# EAGLE library part ADE9000 (library IntegratedLib)
High Performance, Multiphase Energy, and Power Quality Monitoring IC (LFCSP-40)
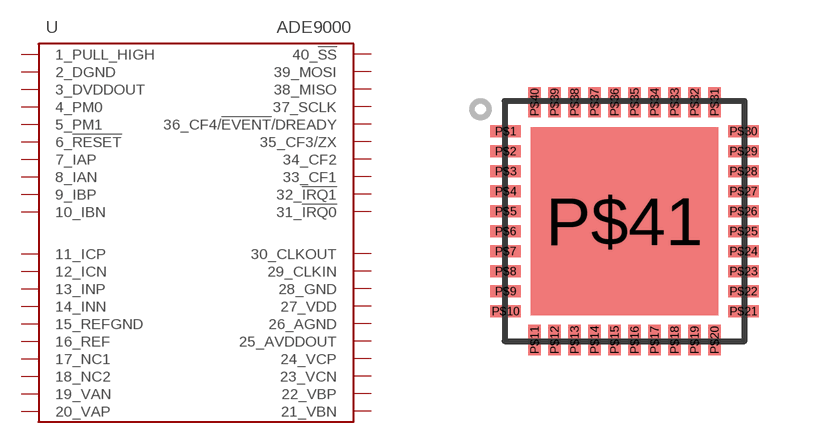
[diagram p15: symbol with the pads of LFCSP-40; footprint LFCSP-40]

Designator prefix U

## ADE9000 (FABRICANTE: ANALOG DEVICES; PARTNUMBER: ADE9000ACPZ; TIPO: CIRCUITO INTEGRADO)  [LFCSP-40]
P$1  1_PULL_HIGH
P$2  2_DGND
P$3  3_DVDDOUT
P$4  4_PM0
P$5  5_PM1
P$6  6_!RESET
P$7  7_IAP
P$8  8_IAN
P$9  9_IBP
P$10  10_IBN
P$11  11_ICP
P$12  12_ICN
P$13  13_INP
P$14  14_INN
P$15  15_REFGND
P$16  16_REF
P$17  17_NC1
P$18  18_NC2
P$19  19_VAN
P$20  20_VAP
P$21  21_VBN
P$22  22_VBP
P$23  23_VCN
P$24  24_VCP
P$25  25_AVDDOUT
P$26  26_AGND
P$27  27_VDD
P$28  28_GND
P$29  29_CLKIN
P$30  30_CLKOUT
P$31  31_!IRQ0
P$32  32_!IRQ1
P$33  33_CF1
P$34  34_CF2
P$35  35_CF3/ZX
P$36  36_CF4/!EVENT!/DREADY
P$37  37_SCLK
P$38  38_MISO
P$39  39_MOSI
P$40  40_!SS
P$41  28_GND

## Footprint LFCSP-40 (pad centres in mm)
smd 0.762 x 0.305: P$1 -2.972,2.25; P$2 -2.972,1.75; P$3 -2.972,1.25; P$4 -2.972,0.75; P$5 -2.972,0.25; P$6 -2.972,-0.25; P$7 -2.972,-0.75; P$8 -2.972,-1.25; P$9 -2.972,-1.75; P$10 -2.972,-2.25; P$21 2.972,-2.25; P$22 2.972,-1.75; P$23 2.972,-1.25; P$24 2.972,-0.75; P$25 2.972,-0.25; P$26 2.972,0.25; P$27 2.972,0.75; P$28 2.972,1.25; P$29 2.972,1.75; P$30 2.972,2.25
smd 0.305 x 0.762: P$11 -2.25,-2.972; P$12 -1.75,-2.972; P$13 -1.25,-2.972; P$14 -0.75,-2.972; P$15 -0.25,-2.972; P$16 0.25,-2.972; P$17 0.75,-2.972; P$18 1.25,-2.972; P$19 1.75,-2.972; P$20 2.25,-2.972; P$31 2.25,2.972; P$32 1.75,2.972; P$33 1.25,2.972; P$34 0.75,2.972; P$35 0.25,2.972; P$36 -0.25,2.972; P$37 -0.75,2.972; P$38 -1.25,2.972; P$39 -1.75,2.972; P$40 -2.25,2.972
smd 4.699 x 4.699: P$41 0,0